# Altium footprint library PcbLib1.PcbLib: 8 footprints
Each footprint in its own frame and in the unit in brackets; x right, y up, seen from the top. Pads: shape width x height; smd on the part's side, far side on the other; paste and mask are expansions set on the pad; w line width, h text height; cw(c..) or ccw(c..) is an arc to the next point about the centre after c.
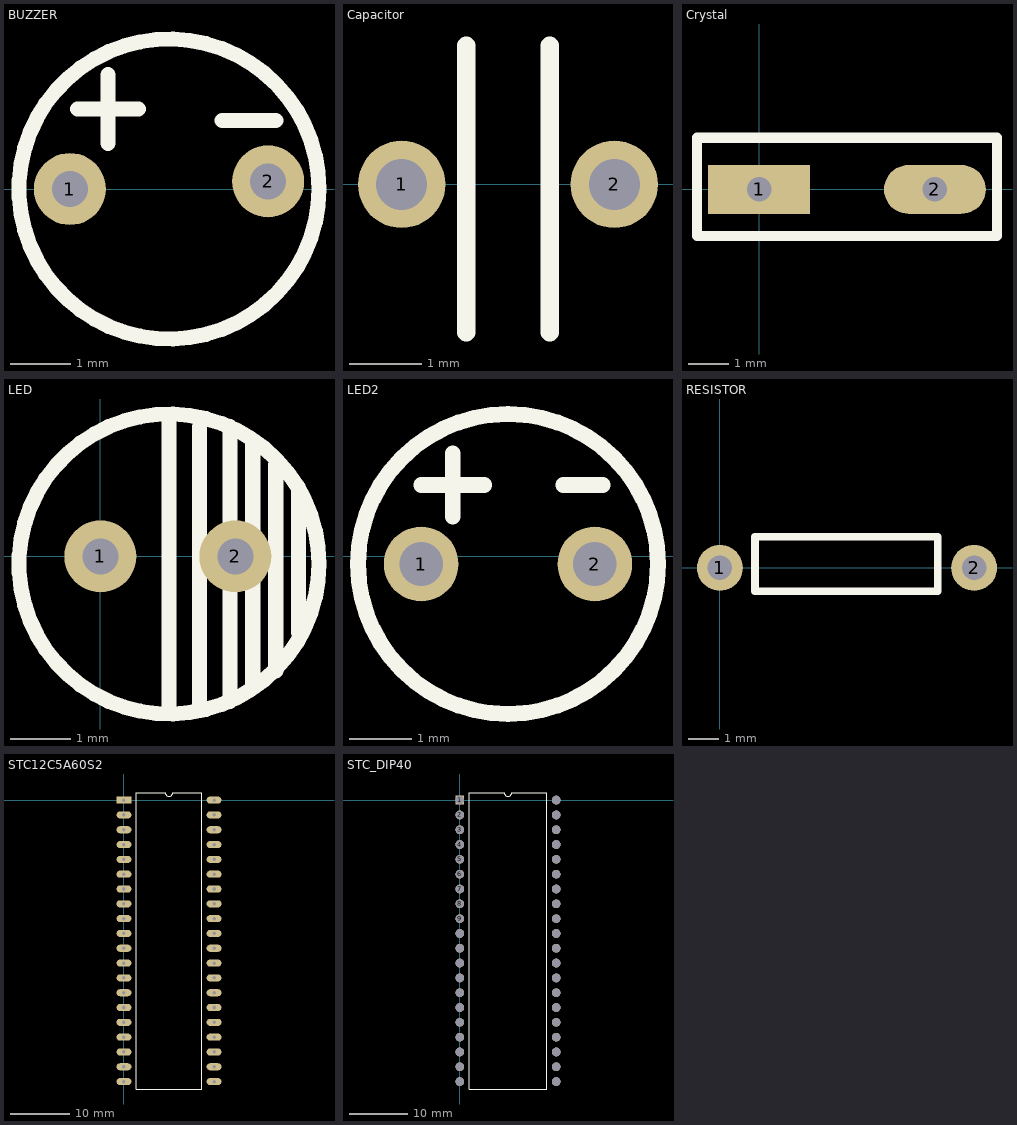
[diagram p0: the footprints below, top view; thin cyan lines are the x and y axes]

## BUZZER [mm]
pads (2):
  round 1.2 hole 0.6: 1(2.413,0) 2(5.715,0.127)
Top Overlay:
  circle w0.25: c4.064,0 r2.5
  lines w0.254: 2.54,1.333 3.556,1.333 ; 3.048,0.762 3.048,1.905 ; 4.953,1.143 5.842,1.143

## Capacitor [mm]
pads (2):
  round 1.2 hole 0.7: 1(9.398,0) 2(12.319,0)
Top Overlay:
  lines w0.254: 10.287,-2.032 10.287,1.905 ; 11.43,-2.032 11.43,1.905

## Crystal [mm]
pads (2):
  rect 2.5x1.2 hole 0.6: 1(0,0)
  oval 2.5x1.2 hole 0.6: 2(4.318,0)
Top Overlay:
  lines w0.254: -1.524,-1.143 5.842,-1.143 5.842,1.27 -1.524,1.27 -1.524,-1.143

## LED [mm]
pads (2):
  round 1.2 hole 0.6: 1(0,0) 2(2.25,0)
Top Overlay:
  circle w0.25: c1.143,-0.127 r2.5
  lines w0.254: 1.143,-2.54 1.143,2.286 ; 1.651,-2.54 1.651,2.159 ; 2.159,-2.413 2.159,2.159 ; 2.54,-2.159 2.54,1.905 ; 2.921,-1.905 2.921,1.524 ; 3.302,-1.27 3.302,1.143

## LED2 [mm]
pads (2):
  round 1.2 hole 0.7: 1(10.287,-0.127) 2(13.081,-0.127)
Top Overlay:
  circle w0.254: c11.684,-0.127 r2.413
  lines w0.254: 10.287,1.143 11.303,1.143 ; 10.795,0.635 10.795,1.651 ; 12.573,1.143 13.208,1.143

## RESISTOR [mm]
pads (2):
  round 1.5 hole 0.8: 1(0,0) 2(8.3,0)
Top Overlay:
  lines w0.254: 1.143,-0.762 7.112,-0.762 7.112,1.016 1.143,1.016 1.143,-0.762

## STC12C5A60S2 [mm]
pads (40):
  rect 2.5x1.2 hole 0.6: 1(0,0)
  oval 2.5x1.2 hole 0.6: 2(0,-2.5) 3(0,-5) 4(0,-7.5) 5(0,-10) 6(0,-12.5) 7(0,-15) 8(0,-17.5) 9(0,-20) 10(0,-22.5) 11(0,-25) 12(0,-27.5) 13(0,-30) 14(0,-32.5) 15(0,-35) 16(0,-37.5) 17(0,-40) 18(0,-42.5) 19(0,-45) 20(0,-47.5) 21(15.2,-47.5) 22(15.2,-45) 23(15.2,-42.5) 24(15.2,-40) 25(15.2,-37.5) 26(15.2,-35) 27(15.2,-32.5) 28(15.2,-30) 29(15.2,-27.5) 30(15.2,-25) 31(15.2,-22.5) 32(15.2,-20) 33(15.2,-17.5) 34(15.2,-15) 35(15.2,-12.5) 36(15.2,-10) 37(15.2,-7.5) 38(15.2,-5) 39(15.2,-2.5) 40(15.2,0)
Top Overlay:
  lines w0.2: 2.085,-48.75 13.115,-48.75 13.115,1.25 8.225,1.25 cw(c7.6,1.25) 6.975,1.25 2.085,1.25 2.085,-48.75

## STC_DIP40 [mm]
pads (40):
  rect 1.5x1.5 hole 1.5: 1(0,0)
  round 1.5 hole 1.5: 2(0,-2.54) 3(0,-5.08) 4(0,-7.62) 5(0,-10.16) 6(0,-12.7) 7(0,-15.24) 8(0,-17.78) 9(0,-20.32) 10(0,-22.86) 11(0,-25.4) 12(0,-27.94) 13(0,-30.48) 14(0,-33.02) 15(0,-35.56) 16(0,-38.1) 17(0,-40.64) 18(0,-43.18) 19(0,-45.72) 20(0,-48.26) 21(16.51,-48.26) 22(16.51,-45.72) 23(16.51,-43.18) 24(16.51,-40.64) 25(16.51,-38.1) 26(16.51,-35.56) 27(16.51,-33.02) 28(16.51,-30.48) 29(16.51,-27.94) 30(16.51,-25.4) 31(16.51,-22.86) 32(16.51,-20.32) 33(16.51,-17.78) 34(16.51,-15.24) 35(16.51,-12.7) 36(16.51,-10.16) 37(16.51,-7.62) 38(16.51,-5.08) 39(16.51,-2.54) 40(16.51,0)
Top Overlay:
  lines w0.2: 1.585,-49.53 14.925,-49.53 14.925,1.27 8.89,1.27 cw(c8.255,1.27) 7.62,1.27 1.585,1.27 1.585,-49.53